# EAGLE library part 2PDT_SWITCH (library eDNA)
Double Pole Double Throw ON OFF ON switch. https://www.digikey.com/product-detail/en/e-switch/100DP1T1B1M2QEH/EG2400-ND/378869
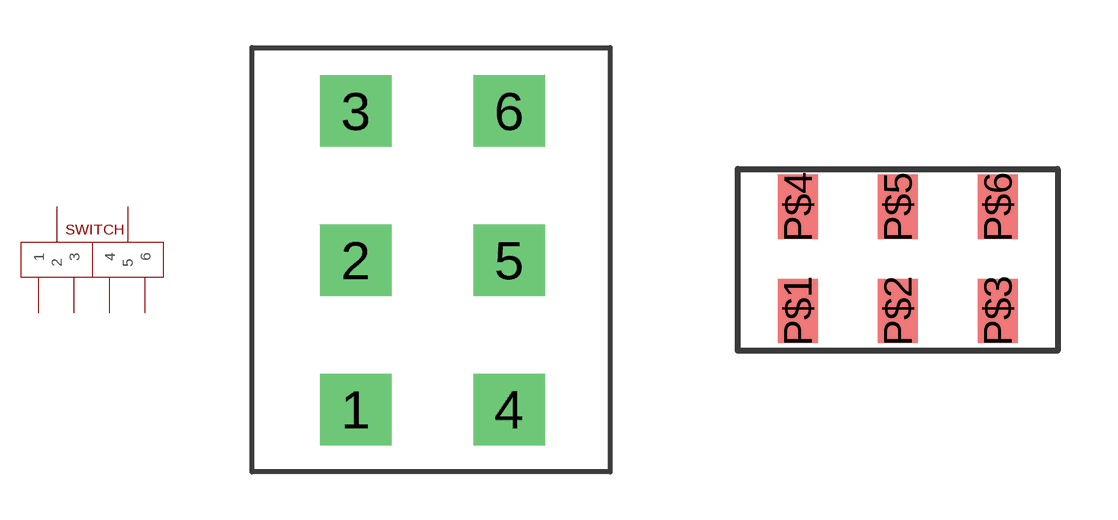
[diagram p12: symbol with the pads of 2PDT_SWITCH_SMD; footprints 2PDT_SWITCH_SMD, JS-DPDT-SMD]

Designator prefix -

## 2PDT_SWITCH  [2PDT_SWITCH_SMD]
1  1
2  2
3  3
4  4
5  5
6  6

## 2PDT_SWITCHJS-SMD  [JS-DPDT-SMD]
P$1  1
P$2  2
P$3  3
P$4  4
P$5  5
P$6  6

## Footprint 2PDT_SWITCH_SMD (pad centres in mm)
drill 1.5 square: 1 0,-9.4; 2 0,-4.7; 3 0,0; 4 4.83,-9.4; 5 4.83,-4.7; 6 4.83,0

## Footprint JS-DPDT-SMD (pad centres in mm)
smd 1 x 1.6: P$1 0,0; P$2 2.5,0; P$3 5,0; P$4 0,2.6; P$5 2.5,2.6; P$6 5,2.6